# Altium footprint library NMJ6HFD2.PcbLib: 1 footprints
Each footprint in its own frame and in the unit in brackets; x right, y up, seen from the top. Pads: shape width x height; smd on the part's side, far side on the other; paste and mask are expansions set on the pad; w line width, h text height; cw(c..) or ccw(c..) is an arc to the next point about the centre after c.
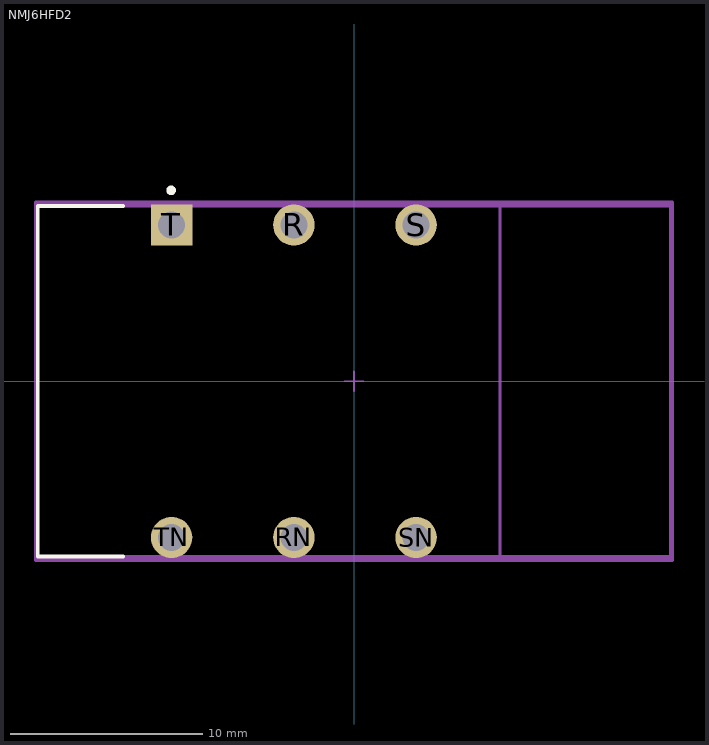
[diagram p0: the footprint, top view; thin cyan lines are the x and y axes]

## NMJ6HFD2 [mm]
pads (6):
  round 2.15 hole 1.4 paste-1000 mask+0: R(-3.125,8.115) RN(-3.125,-8.115) S(3.225,8.115) SN(3.225,-8.115) TN(-9.475,-8.115)
  rect 2.15x2.15 hole 1.4 paste-1000 mask+0: T(-9.475,8.115)
Top Overlay:
  circle w0.25: c-9.5,9.915 r0.125
  lines w0.2: -12,-9.1 -16.425,-9.1 -16.425,9.1 -12,9.1
Mechanical 10:
  lines w0.2: -16.525,-9.29 -16.525,9.29 16.525,9.29 16.525,-9.29 -16.525,-9.29
  text ".Designator" at 0,0 h1
Mechanical 12:
  lines w0.15: 7.575,-9.29 7.575,9.29 ; -16.425,-9.1 -16.425,9.1 16.425,9.1 16.425,-9.1 -16.425,-9.1
Mechanical 15:
  lines w0.1: -0.5,0 0.5,0 ; 0,-0.5 0,0.5
  lines w0.2: -16.525,-9.29 -16.525,9.29 16.525,9.29 16.525,-9.29 -16.525,-9.29
3D body "3D+File+NMJ6HFD2.stp": height 15.7, standoff -4, extent -16.38,-9.1 16.47,9.1